# Altium footprint library 163179PHEX.PcbLib: 1 footprints
Each footprint in its own frame and in the unit in brackets; x right, y up, seen from the top. Pads: shape width x height; smd on the part's side, far side on the other; paste and mask are expansions set on the pad; w line width, h text height; cw(c..) or ccw(c..) is an arc to the next point about the centre after c.
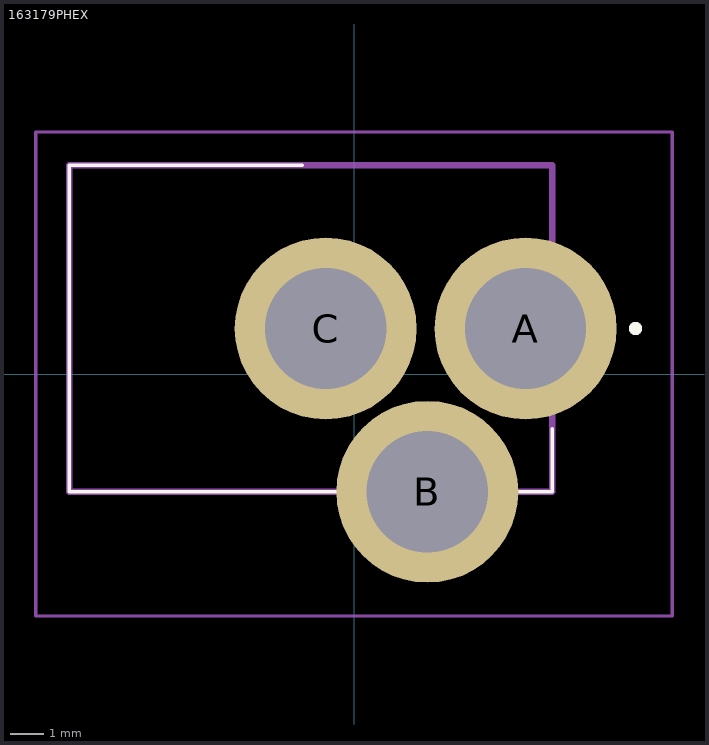
[diagram p0: the footprint, top view; thin cyan lines are the x and y axes]

## 163179PHEX [mm]
pads (3):
  round 5.46 hole 3.64: A(5.15,1.365) B(2.2,-3.535) C(-0.85,1.365)
Top Overlay:
  lines w0.1: -1.55,6.265 -8.55,6.265 -8.55,-3.535 5.95,-3.535 5.95,-1.635
  lines w0.2: 8.45,1.265 ccw(c8.45,1.365) 8.45,1.465 ; 8.45,1.265 8.45,1.265 ; 8.45,1.265 cw(c8.45,1.365) 8.45,1.465 ; 8.45,1.465 8.45,1.465
Mechanical 15:
  lines w0.2: -8.55,-3.535 5.95,-3.535 5.95,6.265 -8.55,6.265 -8.55,-3.535
Mechanical 20:
  lines w0.1: -9.55,-7.265 9.55,-7.265 ; -9.55,-7.265 -9.55,7.265 ; -9.55,-7.265 9.55,-7.265 ; -9.55,-7.265 -9.55,7.265 ; -9.55,7.265 9.55,7.265 ; -9.55,7.265 9.55,7.265 ; 9.55,-7.265 9.55,7.265 ; 9.55,-7.265 9.55,7.265